# Altium footprint library RCU.PcbLib: 91 footprints (part 4 of 6)
Each footprint in its own frame and in the unit in brackets; x right, y up, seen from the top. Pads: shape width x height; smd on the part's side, far side on the other; paste and mask are expansions set on the pad; w line width, h text height; cw(c..) or ccw(c..) is an arc to the next point about the centre after c.
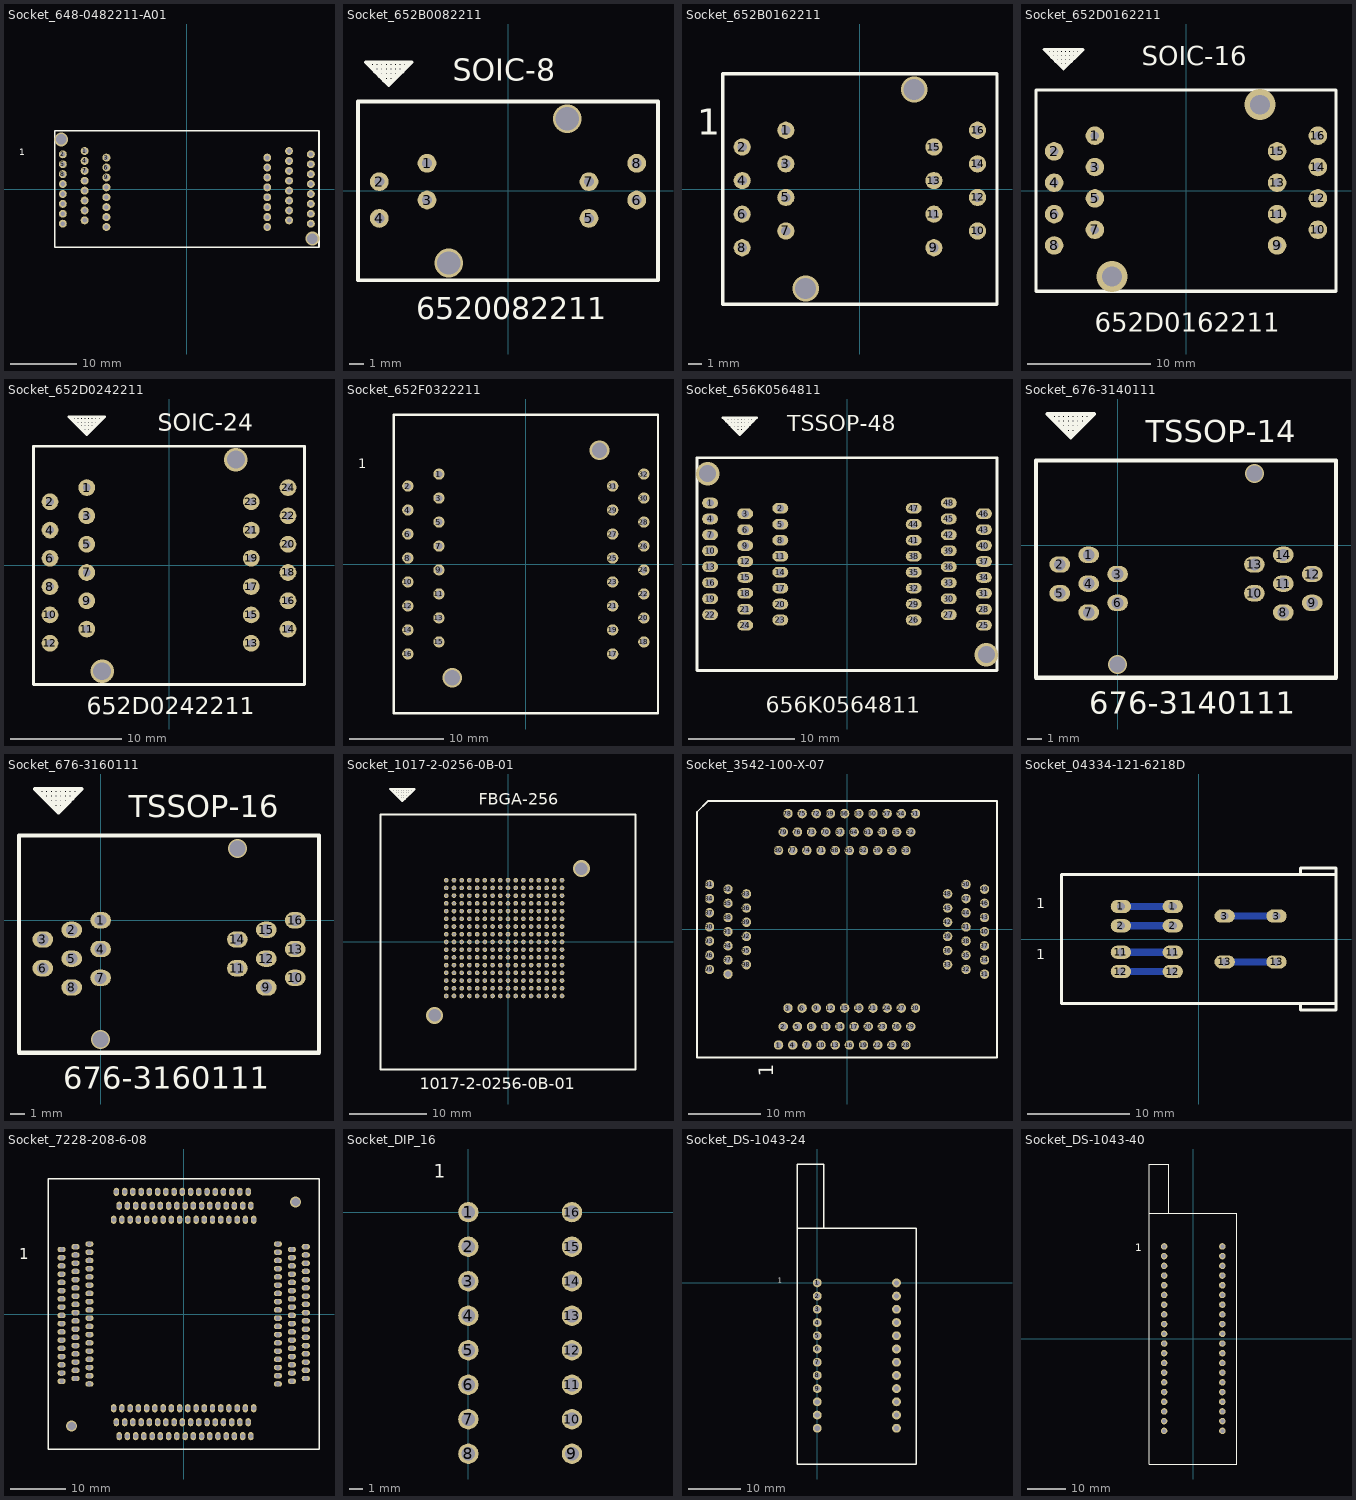
[diagram p3: the footprints below, top view; thin cyan lines are the x and y axes]

## Socket_648-0482211-A01 [mm]
pads (48):
  round 1.2 hole 0.7: 1(-15.47,5.75) 2(-18.77,5.25) 3(-12.17,4.75) 4(-15.47,4.25) 5(-18.77,3.75) 6(-12.17,3.25) 7(-15.47,2.75) 8(-18.77,2.25) 9(-12.17,1.75) 10(-15.47,1.25) 11(-18.77,0.75) 12(-12.17,0.25) 13(-15.47,-0.25) 14(-18.77,-0.75) 15(-12.17,-1.25) 16(-15.47,-1.75) 17(-18.77,-2.25) 18(-12.17,-2.75) 19(-15.47,-3.25) 20(-18.77,-3.75) 21(-12.17,-4.25) 22(-15.47,-4.75) 23(-18.77,-5.25) 24(-12.17,-5.75) 25(12.17,-5.75) 26(18.77,-5.25) 27(15.47,-4.75) 28(12.17,-4.25) 29(18.77,-3.75) 30(15.47,-3.25) 31(12.17,-2.75) 32(18.77,-2.25) 33(15.47,-1.75) 34(12.17,-1.25) 35(18.77,-0.75) 36(15.47,-0.25) 37(12.17,0.25) 38(18.77,0.75) 39(15.47,1.25) 40(12.17,1.75) 41(18.77,2.25) 42(15.47,2.75) 43(12.17,3.25) 44(18.77,3.75) 45(15.47,4.25) 46(12.17,4.75) 47(18.77,5.25) 48(15.47,5.75)
via 19,-7.5 diameter 2.1 hole 1.6
via -19,7.5 diameter 2.1 hole 1.6
Top Overlay:
  lines w0.254: -20,-8.8 -20,8.8 20,8.8 20,-8.8 -20,-8.8
  text "1" at -25.4,5.08 h1

## Socket_652B0082211 [mm]
pads (8):
  round 1.3 hole 0.7: 1(-5.6,1.905) 2(-8.9,0.635) 3(-5.6,-0.635) 4(-8.9,-1.905) 5(5.6,-1.905) 6(8.9,-0.635) 7(5.6,0.635) 8(8.9,1.905)
via -4.1,-4.985 diameter 2 hole 1.6
via 4.1,4.985 diameter 2 hole 1.6
Top Overlay:
  lines w0.254: -9.525,8.89 -9.525,8.572 -6.985,8.572 -6.985,8.89 ; -9.207,8.89 -9.207,8.255 -7.302,8.255 -7.302,8.89 ; -8.89,8.89 -8.89,7.938 -7.62,7.938 -7.62,8.89 ; -8.572,8.89 -8.572,7.62 -7.938,7.62 -7.938,8.89 ; -8.255,8.89 -8.255,7.302 ; -8.255,7.302 -6.667,8.89 -9.842,8.89 -8.255,7.302 ; -10.375,-6.185 10.375,-6.185 10.375,6.185 -10.375,6.185 -10.375,-6.185
  text "SOIC-8" at -3.81,7.62 h1.52
  text "6520082211" at -6.35,-8.89 h1.52

## Socket_652B0162211 [mm]
pads (16):
  round 1.3 hole 0.7: 1(-5.6,4.445) 2(-8.9,3.175) 3(-5.6,1.905) 4(-8.9,0.635) 5(-5.6,-0.635) 6(-8.9,-1.905) 7(-5.6,-3.175) 8(-8.9,-4.445) 9(5.6,-4.445) 10(8.9,-3.175) 11(5.6,-1.905) 12(8.9,-0.635) 13(5.6,0.635) 14(8.9,1.905) 15(5.6,3.175) 16(8.9,4.445)
via -4.1,-7.525 diameter 2 hole 1.6
via 4.1,7.525 diameter 2 hole 1.6
Top Overlay:
  lines w0.254: -10.375,-8.725 10.375,-8.725 10.375,8.725 -10.375,8.725 -10.375,-8.725
  text "1" at -12.32,4.1 h2

## Socket_652D0162211 [mm]
pads (16):
  round 1.5 hole 0.7: 1(-7.38,4.445) 2(-10.68,3.175) 3(-7.38,1.905) 4(-10.68,0.635) 5(-7.38,-0.635) 6(-10.68,-1.905) 7(-7.38,-3.175) 8(-10.68,-4.445) 9(7.38,-4.445) 10(10.68,-3.175) 11(7.38,-1.905) 12(10.68,-0.635) 13(7.38,0.635) 14(10.68,1.905) 15(7.38,3.175) 16(10.68,4.445)
via -6,-6.96 diameter 2.5 hole 1.6
via 6,6.96 diameter 2.5 hole 1.6
Top Overlay:
  lines w0.254: -11.19,11.43 -11.19,11.112 -8.65,11.112 -8.65,11.43 ; -10.873,11.43 -10.873,10.795 -8.968,10.795 -8.968,11.43 ; -10.555,11.43 -10.555,10.477 -9.285,10.477 -9.285,11.43 ; -10.238,11.43 -10.238,10.16 -9.603,10.16 -9.603,11.43 ; -9.92,11.43 -9.92,9.842 ; -9.92,9.842 -11.508,11.43 -8.333,11.43 -9.92,9.842 ; -12.15,-8.16 -12.15,8.16 0,8.16 12.15,8.16 12.15,0 12.15,-8.16 0,-8.16 -12.15,-8.16
  text "652D0162211" at -7.38,-11.43 h1.52
  text "SOIC-16" at -3.57,10.16 h1.52

## Socket_652D0242211 [mm]
pads (24):
  round 1.5 hole 0.7: 1(-7.38,6.985) 2(-10.68,5.715) 3(-7.38,4.445) 4(-10.68,3.175) 5(-7.38,1.905) 6(-10.68,0.635) 7(-7.38,-0.635) 8(-10.68,-1.905) 9(-7.38,-3.175) 10(-10.68,-4.445) 11(-7.38,-5.715) 12(-10.68,-6.985) 13(7.38,-6.985) 14(10.68,-5.715) 15(7.38,-4.445) 16(10.68,-3.175) 17(7.38,-1.905) 18(10.68,-0.635) 19(7.38,0.635) 20(10.68,1.905) 21(7.38,3.175) 22(10.68,4.445) 23(7.38,5.715) 24(10.68,6.985)
via 6,9.5 diameter 2.1 hole 1.6
via -6,-9.5 diameter 2.1 hole 1.6
Top Overlay:
  lines w0.254: -8.65,13.335 -8.65,13.018 -6.11,13.018 -6.11,13.335 ; -8.333,13.335 -8.333,12.7 -6.428,12.7 -6.428,13.335 ; -8.015,13.335 -8.015,12.383 -6.745,12.383 -6.745,13.335 ; -7.698,13.335 -7.698,12.065 -7.063,12.065 -7.063,13.335 ; -7.38,13.335 -7.38,11.747 ; -7.38,11.747 -5.793,13.335 -8.968,13.335 -7.38,11.747 ; -12.15,-10.7 -12.15,10.7 12.15,10.7 12.15,-10.7 -12.15,-10.7
  text "SOIC-24" at -1.03,12.065 h1.52
  text "652D0242211" at -7.38,-13.335 h1.52

## Socket_652F0322211 [mm]
pads (32):
  round 1.2 hole 0.7: 1(-9.2,9.525) 2(-12.5,8.255) 3(-9.2,6.985) 4(-12.5,5.715) 5(-9.2,4.445) 6(-12.5,3.175) 7(-9.2,1.905) 8(-12.5,0.635) 9(-9.2,-0.635) 10(-12.5,-1.905) 11(-9.2,-3.175) 12(-12.5,-4.445) 13(-9.2,-5.715) 14(-12.5,-6.985) 15(-9.2,-8.255) 16(-12.5,-9.525) 17(9.2,-9.525) 18(12.5,-8.255) 19(9.2,-6.985) 20(12.5,-5.715) 21(9.2,-4.445) 22(12.5,-3.175) 23(9.2,-1.905) 24(12.5,-0.635) 25(9.2,0.635) 26(12.5,1.905) 27(9.2,3.175) 28(12.5,4.445) 29(9.2,5.715) 30(12.5,6.985) 31(9.2,8.255) 32(12.5,9.525)
via -7.8,-12.05 diameter 2.1 hole 1.6
via 7.8,12.05 diameter 2.1 hole 1.6
Top Overlay:
  lines w0.254: -14,-15.79 14,-15.79 14,15.79 -14,15.79 -14,-15.79
  text "1" at -17.78,10.16 h1

## Socket_656K0564811 [mm]
pads (48):
  oval 1.5x1 hole 0.7: 1(-12.87,5.75) 2(-6.27,5.25) 3(-9.57,4.75) 4(-12.87,4.25) 5(-6.27,3.75) 6(-9.57,3.25) 7(-12.87,2.75) 8(-6.27,2.25) 9(-9.57,1.75) 10(-12.87,1.25) 11(-6.27,0.75) 12(-9.57,0.25) 13(-12.87,-0.25) 14(-6.27,-0.75) 15(-9.57,-1.25) 16(-12.87,-1.75) 17(-6.27,-2.25) 18(-9.57,-2.75) 19(-12.87,-3.25) 20(-6.27,-3.75) 21(-9.57,-4.25) 22(-12.87,-4.75) 23(-6.27,-5.25) 24(-9.57,-5.75) 25(12.87,-5.75) 26(6.27,-5.25) 27(9.57,-4.75) 28(12.87,-4.25) 29(6.27,-3.75) 30(9.57,-3.25) 31(12.87,-2.75) 32(6.27,-2.25) 33(9.57,-1.75) 34(12.87,-1.25) 35(6.27,-0.75) 36(9.57,-0.25) 37(12.87,0.25) 38(6.27,0.75) 39(9.57,1.25) 40(12.87,1.75) 41(6.27,2.25) 42(9.57,2.75) 43(12.87,3.25) 44(6.27,3.75) 45(9.57,4.25) 46(12.87,4.75) 47(6.27,5.25) 48(9.57,5.75)
via -13.1,8.5 diameter 2.2 hole 1.6
via 13.1,-8.5 diameter 2.2 hole 1.6
Top Overlay:
  lines w0.254: -11.35,13.768 -11.35,13.45 -8.81,13.45 -8.81,13.768 ; -11.033,13.768 -11.033,13.133 -9.128,13.133 -9.128,13.768 ; -10.715,13.768 -10.715,12.815 -9.445,12.815 -9.445,13.768 ; -10.398,13.768 -10.398,12.498 -9.763,12.498 -9.763,13.768 ; -10.08,13.768 -10.08,12.18 ; -10.08,12.18 -11.668,13.768 -8.493,13.768 -10.08,12.18 ; -14.1,-10 14.1,-10 14.1,10 -14.1,10 -14.1,-10
  text "TSSOP-48" at -5.635,12.498 h1.5
  text "656K0564811" at -7.62,-13.97 h1.5

## Socket_676-3140111 [mm]
pads (14):
  oval 1.4x1.1 hole 0.8: 1(-1.956,-0.65) 2(-3.912,-1.3) 3(0,-1.951) 4(-1.956,-2.601) 5(-3.912,-3.251) 6(0,-3.901) 7(-1.956,-4.552) 8(11.227,-4.552) 9(13.183,-3.901) 10(9.271,-3.251) 11(11.227,-2.601) 12(13.183,-1.951) 13(9.271,-1.3) 14(11.227,-0.65)
via 9.271,4.851 diameter 1.3 hole 1.1
via 0,-8.077 diameter 1.3 hole 1.1
Top Overlay:
  lines w0.254: -4.445,8.89 -4.445,8.572 -1.905,8.572 -1.905,8.89 ; -4.127,8.89 -4.127,8.255 -2.222,8.255 -2.222,8.89 ; -3.81,8.89 -3.81,7.938 -2.54,7.938 -2.54,8.89 ; -3.492,8.89 -3.492,7.62 -2.857,7.62 -2.857,8.89 ; -3.175,8.89 -3.175,7.302 ; -3.175,7.302 -4.763,8.89 -1.587,8.89 -3.175,7.302
  lines w0.3: -5.524,-8.966 14.795,-8.966 14.795,5.74 -5.524,5.74 -5.524,-8.966
  text "676-3140111" at -1.905,-11.43 h1.5
  text "TSSOP-14" at 1.905,6.985 h1.5

## Socket_676-3160111 [mm]
pads (16):
  oval 1.4x1.1 hole 0.8: 1(0,0) 2(-1.956,-0.65) 3(-3.912,-1.3) 4(0,-1.951) 5(-1.956,-2.601) 6(-3.912,-3.251) 7(0,-3.901) 8(-1.956,-4.552) 9(11.227,-4.552) 10(13.183,-3.901) 11(9.271,-3.251) 12(11.227,-2.601) 13(13.183,-1.951) 14(9.271,-1.3) 15(11.227,-0.65) 16(13.183,0)
via 0,-8.077 diameter 1.3 hole 1.1
via 9.271,4.851 diameter 1.3 hole 1.1
Top Overlay:
  lines w0.254: -4.127,8.89 -4.127,8.572 -1.587,8.572 -1.587,8.89 ; -3.81,8.89 -3.81,8.255 -1.905,8.255 -1.905,8.89 ; -3.492,8.89 -3.492,7.938 -2.222,7.938 -2.222,8.89 ; -3.175,8.89 -3.175,7.62 -2.54,7.62 -2.54,8.89 ; -2.857,8.89 -2.857,7.302 ; -2.857,7.302 -4.445,8.89 -1.27,8.89 -2.857,7.302
  lines w0.3: -5.524,-8.966 -5.524,5.74 14.795,5.74 14.795,-8.966 -5.524,-8.966
  text "TSSOP-16" at 1.905,6.985 h1.5
  text "676-3160111" at -2.54,-11.43 h1.5

## Socket_1017-2-0256-0B-01 [mm]
pads (256):
  round 0.6 hole 0.35: A1(-8,8) A2(-7,8) A3(-6,8) A4(-5,8) A5(-4,8) A6(-3,8) A7(-2,8) A8(-1,8) A9(0,8) A10(1,8) A11(2,8) A12(3,8) A13(4,8) A14(5,8) A15(6,8) A16(7,8) B1(-8,7) B2(-7,7) B3(-6,7) B4(-5,7) B5(-4,7) B6(-3,7) B7(-2,7) B8(-1,7) B9(0,7) B10(1,7) B11(2,7) B12(3,7) B13(4,7) B14(5,7) B15(6,7) B16(7,7) C1(-8,6) C2(-7,6) C3(-6,6) C4(-5,6) C5(-4,6) C6(-3,6) C7(-2,6) C8(-1,6) C9(0,6) C10(1,6) C11(2,6) C12(3,6) C13(4,6) C14(5,6) C15(6,6) C16(7,6) D1(-8,5) D2(-7,5) D3(-6,5) D4(-5,5) D5(-4,5) D6(-3,5) D7(-2,5) D8(-1,5) D9(0,5) D10(1,5) D11(2,5) D12(3,5) D13(4,5) D14(5,5) D15(6,5) D16(7,5) E1(-8,4) E2(-7,4) E3(-6,4) E4(-5,4) E5(-4,4) E6(-3,4) E7(-2,4) E8(-1,4) E9(0,4) E10(1,4) E11(2,4) E12(3,4) E13(4,4) E14(5,4) E15(6,4) E16(7,4) F1(-8,3) F2(-7,3) F3(-6,3) F4(-5,3) F5(-4,3) F6(-3,3) F7(-2,3) F8(-1,3) F9(0,3) F10(1,3) F11(2,3) F12(3,3) F13(4,3) F14(5,3) F15(6,3) F16(7,3) G1(-8,2) G2(-7,2) G3(-6,2) G4(-5,2) G5(-4,2) G6(-3,2) G7(-2,2) G8(-1,2) G9(0,2) G10(1,2) G11(2,2) G12(3,2) G13(4,2) G14(5,2) G15(6,2) G16(7,2) H1(-8,1) H2(-7,1) H3(-6,1) H4(-5,1) H5(-4,1) H6(-3,1) H7(-2,1) H8(-1,1) H9(0,1) H10(1,1) H11(2,1) H12(3,1) H13(4,1) H14(5,1) H15(6,1) H16(7,1) J1(-8,0) J2(-7,0) J3(-6,0) J4(-5,0) J5(-4,0) J6(-3,0) J7(-2,0) J8(-1,0) J9(0,0) J10(1,0) J11(2,0) J12(3,0) J13(4,0) J14(5,0) J15(6,0) J16(7,0) K1(-8,-1) K2(-7,-1) K3(-6,-1) K4(-5,-1) K5(-4,-1) K6(-3,-1) K7(-2,-1) K8(-1,-1) K9(0,-1) K10(1,-1) K11(2,-1) K12(3,-1) K13(4,-1) K14(5,-1) K15(6,-1) K16(7,-1) L1(-8,-2) L2(-7,-2) L3(-6,-2) L4(-5,-2) L5(-4,-2) L6(-3,-2) L7(-2,-2) L8(-1,-2) L9(0,-2) L10(1,-2) L11(2,-2) L12(3,-2) L13(4,-2) L14(5,-2) L15(6,-2) L16(7,-2) M1(-8,-3) M2(-7,-3) M3(-6,-3) M4(-5,-3) M5(-4,-3) M6(-3,-3) M7(-2,-3) M8(-1,-3) M9(0,-3) M10(1,-3) M11(2,-3) M12(3,-3) M13(4,-3) M14(5,-3) M15(6,-3) M16(7,-3) N1(-8,-4) N2(-7,-4) N3(-6,-4) N4(-5,-4) N5(-4,-4) N6(-3,-4) N7(-2,-4) N8(-1,-4) N9(0,-4) N10(1,-4) N11(2,-4) N12(3,-4) N13(4,-4) N14(5,-4) N15(6,-4) N16(7,-4) P1(-8,-5) P2(-7,-5) P3(-6,-5) P4(-5,-5) P5(-4,-5) P6(-3,-5) P7(-2,-5) P8(-1,-5) P9(0,-5) P10(1,-5) P11(2,-5) P12(3,-5) P13(4,-5) P14(5,-5) P15(6,-5) P16(7,-5) R1(-8,-6) R2(-7,-6) R3(-6,-6) R4(-5,-6) R5(-4,-6) R6(-3,-6) R7(-2,-6) R8(-1,-6) R9(0,-6) R10(1,-6) R11(2,-6) R12(3,-6) R13(4,-6) R14(5,-6) R15(6,-6) R16(7,-6) T1(-8,-7) T2(-7,-7) T3(-6,-7) T4(-5,-7) T5(-4,-7) T6(-3,-7) T7(-2,-7) T8(-1,-7) T9(0,-7) T10(1,-7) T11(2,-7) T12(3,-7) T13(4,-7) T14(5,-7) T15(6,-7) T16(7,-7)
via 9.5,9.5 diameter 2.2 hole 1.6
via -9.5,-9.5 diameter 2.2 hole 1.6
Top Overlay:
  lines w0.254: -14.945,19.817 -14.945,19.5 -12.405,19.5 -12.405,19.817 ; -14.628,19.817 -14.628,19.182 -12.723,19.182 -12.723,19.817 ; -14.31,19.817 -14.31,18.865 -13.04,18.865 -13.04,19.817 ; -13.993,19.817 -13.993,18.547 -13.358,18.547 -13.358,19.817 ; -13.675,19.817 -13.675,18.23 ; -13.675,18.23 -12.088,19.817 -15.263,19.817 -13.675,18.23 ; -16.5,-16.5 16.5,-16.5 16.5,16.5 -16.5,16.5 -16.5,-16.5
  text "1017-2-0256-0B-01" at -11.43,-19.05 h1.5
  text "FBGA-256" at -3.81,17.78 h1.5

## Socket_3542-100-X-07 [mm]
pads (100):
  round 1.3 hole 0.83: 1(-9.425,-15.93) 2(-8.775,-13.39) 3(-8.125,-10.85) 4(-7.475,-15.93) 5(-6.825,-13.39) 6(-6.175,-10.85) 7(-5.525,-15.93) 8(-4.875,-13.39) 9(-4.225,-10.85) 10(-3.575,-15.93) 11(-2.925,-13.39) 12(-2.275,-10.85) 13(-1.625,-15.93) 14(-0.975,-13.39) 15(-0.325,-10.85) 16(0.325,-15.93) 17(0.975,-13.39) 18(1.625,-10.85) 19(2.275,-15.93) 20(2.925,-13.39) 21(3.575,-10.85) 22(4.225,-15.93) 23(4.875,-13.39) 24(5.525,-10.85) 25(6.175,-15.93) 26(6.825,-13.39) 27(7.475,-10.85) 28(8.125,-15.93) 29(8.775,-13.39) 30(9.425,-10.85) 31(18.93,-6.175) 32(16.39,-5.525) 33(13.85,-4.875) 34(18.93,-4.225) 35(16.39,-3.575) 36(13.85,-2.925) 37(18.93,-2.275) 38(16.39,-1.625) 39(13.85,-0.975) 40(18.93,-0.325) 41(16.39,0.325) 42(13.85,0.975) 43(18.93,1.625) 44(16.39,2.275) 45(13.85,2.925) 46(18.93,3.575) 47(16.39,4.225) 48(13.85,4.875) 49(18.93,5.525) 50(16.39,6.175) 51(9.425,15.93) 52(8.775,13.39) 53(8.125,10.85) 54(7.475,15.93) 55(6.825,13.39) 56(6.175,10.85) 57(5.525,15.93) 58(4.875,13.39) 59(4.225,10.85) 60(3.575,15.93) 61(2.925,13.39) 62(2.275,10.85) 63(1.625,15.93) 64(0.975,13.39) 65(0.325,10.85) 66(-0.325,15.93) 67(-0.975,13.39) 68(-1.625,10.85) 69(-2.275,15.93) 70(-2.925,13.39) 71(-3.575,10.85) 72(-4.225,15.93) 73(-4.875,13.39) 74(-5.525,10.85) 75(-6.175,15.93) 76(-6.825,13.39) 77(-7.475,10.85) 78(-8.125,15.93) 79(-8.775,13.39) 80(-9.425,10.85) 81(-18.93,6.175) 82(-16.39,5.525) 83(-13.85,4.875) 84(-18.93,4.225) 85(-16.39,3.575) 86(-13.85,2.925) 87(-18.93,2.275) 88(-16.39,1.625) 89(-13.85,0.975) 90(-18.93,0.325) 91(-16.39,-0.325) 92(-13.85,-0.975) 93(-18.93,-1.625) 94(-16.39,-2.275) 95(-13.85,-2.925) 96(-18.93,-3.575) 97(-16.39,-4.225) 98(-13.85,-4.875) 99(-18.93,-5.525) 100(-16.39,-6.175)
Top Overlay:
  lines w0.254: -20.65,-17.65 20.65,-17.65 20.65,17.65 -19.15,17.65 -20.65,16.15 -20.65,-17.65
  text "1" at -10.16,-20.32 h2

## Socket_04334-121-6218D [mm]
pads (12):
  oval 2x1.3 hole 0.8: 1(-7.65,3.2) 1(-2.55,3.2) 2(-7.65,1.3) 2(-2.55,1.3) 3(2.55,2.25) 3(7.65,2.25) 11(-7.65,-1.3) 11(-2.55,-1.3) 12(-7.65,-3.2) 12(-2.55,-3.2) 13(2.55,-2.25) 13(7.65,-2.25)
Bottom Layer:
  lines w0.7: -7.65,-3.2 -2.55,-3.2 ; -7.65,-1.3 -2.55,-1.3 ; -7.65,1.3 -2.55,1.3 ; -7.65,3.2 -2.55,3.2 ; 2.55,-2.25 7.65,-2.25 ; 2.55,2.25 7.65,2.25
Top Overlay:
  lines w0.3: 10,-6.35 10,-7 13.5,-7 13.5,-6.35 ; 10,6.35 10,7 13.5,7 13.5,6.35 ; 13.5,-6.35 13.5,6.35 ; 13.5,-6.35 -13.5,-6.35 -13.5,6.35 13.5,6.35
  text "1" at -16,3 h1
  text "1" at -16,-2 h1

## Socket_7228-208-6-08 [mm]
pads (208):
  oval 1.5x1 hole 0.83: 1(-17.17,12.75) 2(-19.71,12.25) 3(-22.25,11.75) 4(-17.17,11.25) 5(-19.71,10.75) 6(-22.25,10.25) 7(-17.17,9.75) 8(-19.71,9.25) 9(-22.25,8.75) 10(-17.17,8.25) 11(-19.71,7.75) 12(-22.25,7.25) 13(-17.17,6.75) 14(-19.71,6.25) 15(-22.25,5.75) 16(-17.17,5.25) 17(-19.71,4.75) 18(-22.25,4.25) 19(-17.17,3.75) 20(-19.71,3.25) 21(-22.25,2.75) 22(-17.17,2.25) 23(-19.71,1.75) 24(-22.25,1.25) 25(-17.17,0.75) 26(-19.71,0.25) 27(-22.25,-0.25) 28(-17.17,-0.75) 29(-19.71,-1.25) 30(-22.25,-1.75) 31(-17.17,-2.25) 32(-19.71,-2.75) 33(-22.25,-3.25) 34(-17.17,-3.75) 35(-19.71,-4.25) 36(-22.25,-4.75) 37(-17.17,-5.25) 38(-19.71,-5.75) 39(-22.25,-6.25) 40(-17.17,-6.75) 41(-19.71,-7.25) 42(-22.25,-7.75) 43(-17.17,-8.25) 44(-19.71,-8.75) 45(-22.25,-9.25) 46(-17.17,-9.75) 47(-19.71,-10.25) 48(-22.25,-10.75) 49(-17.17,-11.25) 50(-19.71,-11.75) 51(-22.25,-12.25) 52(-17.17,-12.75) 105(17.17,-12.75) 106(19.71,-12.25) 107(22.25,-11.75) 108(17.17,-11.25) 109(19.71,-10.75) 110(22.25,-10.25) 111(17.17,-9.75) 112(19.71,-9.25) 113(22.25,-8.75) 114(17.17,-8.25) 115(19.71,-7.75) 116(22.25,-7.25) 117(17.17,-6.75) 118(19.71,-6.25) 119(22.25,-5.75) 120(17.17,-5.25) 121(19.71,-4.75) 122(22.25,-4.25) 123(17.17,-3.75) 124(19.71,-3.25) 125(22.25,-2.75) 126(17.17,-2.25) 127(19.71,-1.75) 128(22.25,-1.25) 129(17.17,-0.75) 130(19.71,-0.25) 131(22.25,0.25) 132(17.17,0.75) 133(19.71,1.25) 134(22.25,1.75) 135(17.17,2.25) 136(19.71,2.75) 137(22.25,3.25) 138(17.17,3.75) 139(19.71,4.25) 140(22.25,4.75) 141(17.17,5.25) 142(19.71,5.75) 143(22.25,6.25) 144(17.17,6.75) 145(19.71,7.25) 146(22.25,7.75) 147(17.17,8.25) 148(19.71,8.75) 149(22.25,9.25) 150(17.17,9.75) 151(19.71,10.25) 152(22.25,10.75) 153(17.17,11.25) 154(19.71,11.75) 155(22.25,12.25) 156(17.17,12.75)
  oval 1x1.5 hole 0.83: 53(-12.75,-17.17) 54(-12.25,-19.71) 55(-11.75,-22.25) 56(-11.25,-17.17) 57(-10.75,-19.71) 58(-10.25,-22.25) 59(-9.75,-17.17) 60(-9.25,-19.71) 61(-8.75,-22.25) 62(-8.25,-17.17) 63(-7.75,-19.71) 64(-7.25,-22.25) 65(-6.75,-17.17) 66(-6.25,-19.71) 67(-5.75,-22.25) 68(-5.25,-17.17) 69(-4.75,-19.71) 70(-4.25,-22.25) 71(-3.75,-17.17) 72(-3.25,-19.71) 73(-2.75,-22.25) 74(-2.25,-17.17) 75(-1.75,-19.71) 76(-1.25,-22.25) 77(-0.75,-17.17) 78(-0.25,-19.71) 79(0.25,-22.25) 80(0.75,-17.17) 81(1.25,-19.71) 82(1.75,-22.25) 83(2.25,-17.17) 84(2.75,-19.71) 85(3.25,-22.25) 86(3.75,-17.17) 87(4.25,-19.71) 88(4.75,-22.25) 89(5.25,-17.17) 90(5.75,-19.71) 91(6.25,-22.25) 92(6.75,-17.17) 93(7.25,-19.71) 94(7.75,-22.25) 95(8.25,-17.17) 96(8.75,-19.71) 97(9.25,-22.25) 98(9.75,-17.17) 99(10.25,-19.71) 100(10.75,-22.25) 101(11.25,-17.17) 102(11.75,-19.71) 103(12.25,-22.25) 104(12.75,-17.17) 157(12.75,17.17) 158(12.25,19.71) 159(11.75,22.25) 160(11.25,17.17) 161(10.75,19.71) 162(10.25,22.25) 163(9.75,17.17) 164(9.25,19.71) 165(8.75,22.25) 166(8.25,17.17) 167(7.75,19.71) 168(7.25,22.25) 169(6.75,17.17) 170(6.25,19.71) 171(5.75,22.25) 172(5.25,17.17) 173(4.75,19.71) 174(4.25,22.25) 175(3.75,17.17) 176(3.25,19.71) 177(2.75,22.25) 178(2.25,17.17) 179(1.75,19.71) 180(1.25,22.25) 181(0.75,17.17) 182(0.25,19.71) 183(-0.25,22.25) 184(-0.75,17.17) 185(-1.25,19.71) 186(-1.75,22.25) 187(-2.25,17.17) 188(-2.75,19.71) 189(-3.25,22.25) 190(-3.75,17.17) 191(-4.25,19.71) 192(-4.75,22.25) 193(-5.25,17.17) 194(-5.75,19.71) 195(-6.25,22.25) 196(-6.75,17.17) 197(-7.25,19.71) 198(-7.75,22.25) 199(-8.25,17.17) 200(-8.75,19.71) 201(-9.25,22.25) 202(-9.75,17.17) 203(-10.25,19.71) 204(-10.75,22.25) 205(-11.25,17.17) 206(-11.75,19.71) 207(-12.25,22.25) 208(-12.75,17.17)
via -20.41,-20.41 diameter 2 hole 1.5
via 20.41,20.41 diameter 2 hole 1.5
Top Overlay:
  lines w0.254: -24.65,-24.65 -24.65,24.65 24.65,24.65 24.65,-24.65 -24.65,-24.65
  text "1" at -30,10 h2

## Socket_DIP_16 [mm]
pads (16):
  round 1.5 hole 1: 1(0,0) 2(0,-2.54) 3(0,-5.08) 4(0,-7.62) 5(0,-10.16) 6(0,-12.7) 7(0,-15.24) 8(0,-17.78) 9(7.62,-17.78) 10(7.62,-15.24) 11(7.62,-12.7) 12(7.62,-10.16) 13(7.62,-7.62) 14(7.62,-5.08) 15(7.62,-2.54) 16(7.62,0)
Top Overlay:
  text "1" at -2.54,2.54 h1

## Socket_DS-1043-24 [mm]
pads (24):
  round 1.7 hole 1: 1(0,0) 2(0,-2.54) 3(0,-5.08) 4(0,-7.62) 5(0,-10.16) 6(0,-12.7) 7(0,-15.24) 8(0,-17.78) 9(0,-20.32) 10(0,-22.86) 11(0,-25.4) 12(0,-27.94) 13(15.24,-27.94) 14(15.24,-25.4) 15(15.24,-22.86) 16(15.24,-20.32) 17(15.24,-17.78) 18(15.24,-15.24) 19(15.24,-12.7) 20(15.24,-10.16) 21(15.24,-7.62) 22(15.24,-5.08) 23(15.24,-2.54) 24(15.24,0)
Top Overlay:
  lines w0.254: 1.27,10.5 1.27,22.82 1.25,22.84 -3.83,22.84 -3.83,10.5 ; -3.83,10.5 -3.83,-34.8 19.07,-34.8 19.07,10.5 -3.83,10.5
  text "1" at -7.62,0 h1

## Socket_DS-1043-40 [mm]
pads (40):
  round 1.7 hole 1: 1(-7.62,24.13) 2(-7.62,21.59) 3(-7.62,19.05) 4(-7.62,16.51) 5(-7.62,13.97) 6(-7.62,11.43) 7(-7.62,8.89) 8(-7.62,6.35) 9(-7.62,3.81) 10(-7.62,1.27) 11(-7.62,-1.27) 12(-7.62,-3.81) 13(-7.62,-6.35) 14(-7.62,-8.89) 15(-7.62,-11.43) 16(-7.62,-13.97) 17(-7.62,-16.51) 18(-7.62,-19.05) 19(-7.62,-21.59) 20(-7.62,-24.13) 21(7.62,-24.13) 22(7.62,-21.59) 23(7.62,-19.05) 24(7.62,-16.51) 25(7.62,-13.97) 26(7.62,-11.43) 27(7.62,-8.89) 28(7.62,-6.35) 29(7.62,-3.81) 30(7.62,-1.27) 31(7.62,1.27) 32(7.62,3.81) 33(7.62,6.35) 34(7.62,8.89) 35(7.62,11.43) 36(7.62,13.97) 37(7.62,16.51) 38(7.62,19.05) 39(7.62,21.59) 40(7.62,24.13)
Top Overlay:
  lines w0.254: -6.35,32.8 -6.35,45.68 -6.37,45.7 -11.45,45.7 -11.45,32.8 ; -11.45,32.8 11.45,32.8 11.45,-32.8 -11.45,-32.8 -11.45,32.8
  text "1" at -15.24,22.86 h2